# EAGLE library part AD8418BZR (library ATMEGA328PB-AN)
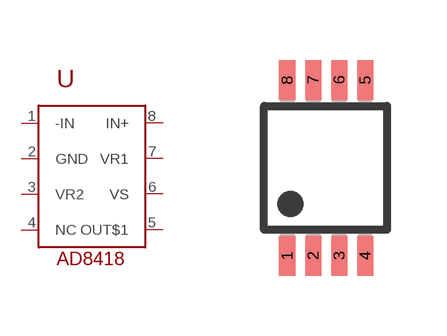
[diagram p2: symbol with the pads of DGK_S-PDSO-G8; footprint DGK_S-PDSO-G8]

Designator prefix U

## AD8418BZR  [DGK_S-PDSO-G8]
1  -IN
2  GND  pwr
3  VR2
4  NC  nc
5  OUT$1  out
6  VS  pwr
7  VR1
8  IN+

## Footprint DGK_S-PDSO-G8 (pad centres in mm)
8-Pin MSOP (DGK) Package Source: DGK (S-PDSO-G8) <http://www.ti.com/lit/ml/mpds028d/mpds028d.pdf>
smd 0.4 x 1: 1 -0.975,-2.2; 2 -0.325,-2.2; 3 0.325,-2.2; 4 0.975,-2.2; 5 0.975,2.2; 6 0.325,2.2; 7 -0.325,2.2; 8 -0.975,2.2